# EAGLE library part TPS77601 (library IC)
Texas Instruments TPS77601 500mA Low Dropout Voltage Regulator
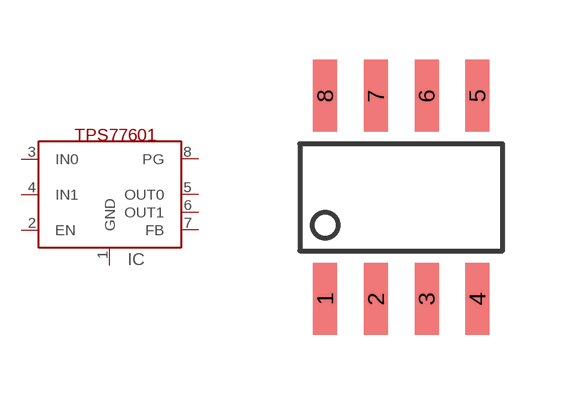
[diagram p151: symbol with the pads of SOIC8; footprint SOIC8]

Designator prefix IC

## TPS77601  [SOIC8]
1  GND  pwr
2  EN  in
3  IN0  in
4  IN1  in
5  OUT0  out
6  OUT1  out
7  FB
8  PG  in

## Footprint SOIC8 (pad centres in mm)
8 pin SOIC 150-mil package
smd 0.6 x 1.8: 1 -1.905,-2.54; 2 -0.635,-2.54; 3 0.635,-2.54; 4 1.905,-2.54; 5 1.905,2.54; 6 0.635,2.54; 7 -0.635,2.54; 8 -1.905,2.54